# Altium integrated library WE-LHMI (rev25c).IntLib: 193 symbols (part 3 of 4)
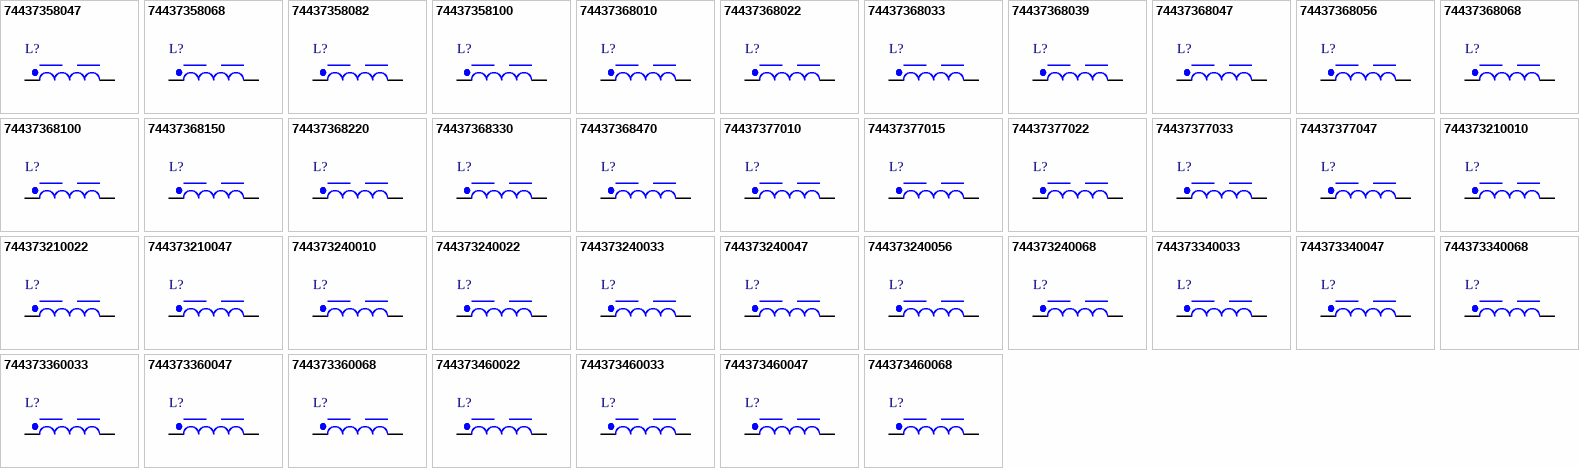
[diagram p6: symbols 74437358047 to 744373460068]

## 744373240056
designator L?, comment 0.56μH  (value not drawn)
WE-LHMI SMT Power Inductor, size 4020, 0.56μH, 7.9A, 16mΩ; Manufacturer Part Number: 744373240056; Manufacturer: Wurth Elektronik; Case/Size Code: 4020; Saturation Current @ 10%: 6.7A; Saturation Current @ 30%: 13A; Self Resonant Frequency: 104MHz; Category: Power Inductors; Match Code: WE-LHMI; ComponentLink1Description: Website Link; ComponentLink1URL: https://www.we-online.com/redexpert/article/744373240056?ad; ComponentLink2Description: Datasheet Link; ComponentLink2URL: https://www.we-online.com/redexpert/spec/744373240056?ad; Mount: Surface Mount; Min Operating Temperature: -40°C; Max Operating Temperature: 125°C; Packaging: Tape and Reel; Length: 4.45mm; Width: 4.06mm; Height: 1.8mm; DC Resistance Max: 16mΩ; Inductance: 0.56μH; Performance Rated Current: 7.9A
footprint WE-LHMI_4020
simulation model 4020_744373240056_0.56u
pins: 1, 2

## 744373240068
designator L?, comment 0.68μH  (value not drawn)
WE-LHMI SMT Power Inductor, size 4020, 0.68μH, 7.3A, 19mΩ; Manufacturer Part Number: 744373240068; Manufacturer: Wurth Elektronik; Case/Size Code: 4020; Saturation Current @ 10%: 7.1A; Saturation Current @ 30%: 14A; Self Resonant Frequency: 90MHz; Category: Power Inductors; Match Code: WE-LHMI; ComponentLink1Description: Website Link; ComponentLink1URL: https://www.we-online.com/redexpert/article/744373240068?ad; ComponentLink2Description: Datasheet Link; ComponentLink2URL: https://www.we-online.com/redexpert/spec/744373240068?ad; Mount: Surface Mount; Min Operating Temperature: -40°C; Max Operating Temperature: 125°C; Packaging: Tape and Reel; Length: 4.45mm; Width: 4.06mm; Height: 1.8mm; DC Resistance Max: 19mΩ; Inductance: 0.68μH; Performance Rated Current: 7.3A
footprint WE-LHMI_4020
simulation model 4020_744373240068_0.68u
pins: 1, 2

## 744373340033
designator L?, comment 0.33μH  (value not drawn)
WE-LHMI SMT Power Inductor, size 5020, 0.33μH, 12.4A, 7.3mΩ; Manufacturer Part Number: 744373340033; Manufacturer: Wurth Elektronik; Case/Size Code: 5020; Saturation Current @ 10%: 14.7A; Saturation Current @ 30%: 29.3A; Self Resonant Frequency: 100MHz; Category: Power Inductors; Match Code: WE-LHMI; ComponentLink1Description: Website Link; ComponentLink1URL: https://www.we-online.com/redexpert/article/744373340033?ad; ComponentLink2Description: Datasheet Link; ComponentLink2URL: https://www.we-online.com/redexpert/spec/744373340033?ad; Mount: Surface Mount; Min Operating Temperature: -40°C; Max Operating Temperature: 125°C; Packaging: Tape and Reel; Length: 5.7mm; Width: 5.2mm; Height: 1.8mm; DC Resistance Max: 7.3mΩ; Inductance: 0.33μH; Performance Rated Current: 12.4A
footprint WE-LHMI_5020
simulation model 5020_744373340033_0.33u
pins: 1, 2

## 744373340047
designator L?, comment 0.47μH  (value not drawn)
WE-LHMI SMT Power Inductor, size 5020, 0.47μH, 11.5A, 8.6mΩ; Manufacturer Part Number: 744373340047; Manufacturer: Wurth Elektronik; Case/Size Code: 5020; Saturation Current @ 10%: 9.6A; Saturation Current @ 30%: 19.8A; Self Resonant Frequency: 95MHz; Category: Power Inductors; Match Code: WE-LHMI; ComponentLink1Description: Website Link; ComponentLink1URL: https://www.we-online.com/redexpert/article/744373340047?ad; ComponentLink2Description: Datasheet Link; ComponentLink2URL: https://www.we-online.com/redexpert/spec/744373340047?ad; Mount: Surface Mount; Min Operating Temperature: -40°C; Max Operating Temperature: 125°C; Packaging: Tape and Reel; Length: 5.7mm; Width: 5.2mm; Height: 1.8mm; DC Resistance Max: 8.6mΩ; Inductance: 0.47μH; Performance Rated Current: 11.5A
footprint WE-LHMI_5020
simulation model 5020_744373340047_0.47u
pins: 1, 2

## 744373340068
designator L?, comment 0.68μH  (value not drawn)
WE-LHMI SMT Power Inductor, size 5020, 0.68μH, 9.4A, 12.4mΩ; Manufacturer Part Number: 744373340068; Manufacturer: Wurth Elektronik; Case/Size Code: 5020; Saturation Current @ 10%: 9.8A; Saturation Current @ 30%: 17.8A; Self Resonant Frequency: 90MHz; Category: Power Inductors; Match Code: WE-LHMI; ComponentLink1Description: Website Link; ComponentLink1URL: https://www.we-online.com/redexpert/article/744373340068?ad; ComponentLink2Description: Datasheet Link; ComponentLink2URL: https://www.we-online.com/redexpert/spec/744373340068?ad; Mount: Surface Mount; Min Operating Temperature: -40°C; Max Operating Temperature: 125°C; Packaging: Tape and Reel; Length: 5.7mm; Width: 5.2mm; Height: 1.8mm; DC Resistance Max: 12.4mΩ; Inductance: 0.68μH; Performance Rated Current: 9.4A
footprint WE-LHMI_5020
simulation model 5020_744373340068_0.68u
pins: 1, 2

## 744373360033
designator L?, comment 0.33μH  (value not drawn)
WE-LHMI SMT Power Inductor, size 5030, 0.33μH, 15.1A, 5mΩ; Manufacturer Part Number: 744373360033; Manufacturer: Wurth Elektronik; Case/Size Code: 5030; Saturation Current @ 10%: 15A; Saturation Current @ 30%: 29.3A; Self Resonant Frequency: 120MHz; Category: Power Inductors; Match Code: WE-LHMI; ComponentLink1Description: Website Link; ComponentLink1URL: https://www.we-online.com/redexpert/article/744373360033?ad; ComponentLink2Description: Datasheet Link; ComponentLink2URL: https://www.we-online.com/redexpert/spec/744373360033?ad; Mount: Surface Mount; Min Operating Temperature: -40°C; Max Operating Temperature: 125°C; Packaging: Tape and Reel; Length: 5.7mm; Width: 5.2mm; Height: 2.8mm; DC Resistance Max: 5mΩ; Inductance: 0.33μH; Performance Rated Current: 15.1A
footprint WE-LHMI_5030
simulation model 5030_744373360033_0.33u
pins: 1, 2

## 744373360047
designator L?, comment 0.47μH  (value not drawn)
WE-LHMI SMT Power Inductor, size 5030, 0.47μH, 12.3A, 7.4mΩ; Manufacturer Part Number: 744373360047; Manufacturer: Wurth Elektronik; Case/Size Code: 5030; Saturation Current @ 10%: 10.8A; Saturation Current @ 30%: 21.5A; Self Resonant Frequency: 100MHz; Category: Power Inductors; Match Code: WE-LHMI; ComponentLink1Description: Website Link; ComponentLink1URL: https://www.we-online.com/redexpert/article/744373360047?ad; ComponentLink2Description: Datasheet Link; ComponentLink2URL: https://www.we-online.com/redexpert/spec/744373360047?ad; Mount: Surface Mount; Min Operating Temperature: -40°C; Max Operating Temperature: 125°C; Packaging: Tape and Reel; Length: 5.7mm; Width: 5.2mm; Height: 2.8mm; DC Resistance Max: 7.4mΩ; Inductance: 0.47μH; Performance Rated Current: 12.3A
footprint WE-LHMI_5030
simulation model 5030_744373360047_0.47u
pins: 1, 2

## 744373360068
designator L?, comment 0.68μH  (value not drawn)
WE-LHMI SMT Power Inductor, size 5030, 0.68μH, 9.8A, 12mΩ; Manufacturer Part Number: 744373360068; Manufacturer: Wurth Elektronik; Case/Size Code: 5030; Saturation Current @ 10%: 10.2A; Saturation Current @ 30%: 19.3A; Self Resonant Frequency: 90MHz; Category: Power Inductors; Match Code: WE-LHMI; ComponentLink1Description: Website Link; ComponentLink1URL: https://www.we-online.com/redexpert/article/744373360068?ad; ComponentLink2Description: Datasheet Link; ComponentLink2URL: https://www.we-online.com/redexpert/spec/744373360068?ad; Mount: Surface Mount; Min Operating Temperature: -40°C; Max Operating Temperature: 125°C; Packaging: Tape and Reel; Length: 5.7mm; Width: 5.2mm; Height: 2.8mm; DC Resistance Max: 12mΩ; Inductance: 0.68μH; Performance Rated Current: 9.8A
footprint WE-LHMI_5030
simulation model 5030_744373360068_0.68u
pins: 1, 2

## 744373460022
designator L?, comment 0.22μH  (value not drawn)
WE-LHMI SMT Power Inductor, size 7030, 0.22μH, 23A, 2.8mΩ; Manufacturer Part Number: 744373460022; Manufacturer: Wurth Elektronik; Case/Size Code: 7030; Saturation Current @ 10%: 29.9A; Saturation Current @ 30%: 54.3A; Self Resonant Frequency: 149MHz; Category: Power Inductors; Match Code: WE-LHMI; ComponentLink1Description: Website Link; ComponentLink1URL: https://www.we-online.com/redexpert/article/744373460022?ad; ComponentLink2Description: Datasheet Link; ComponentLink2URL: https://www.we-online.com/redexpert/spec/744373460022?ad; Mount: Surface Mount; Min Operating Temperature: -40°C; Max Operating Temperature: 125°C; Packaging: Tape and Reel; Length: 7.3mm; Width: 6.6mm; Height: 2.8mm; DC Resistance Max: 2.8mΩ; Inductance: 0.22μH; Performance Rated Current: 23A
footprint WE-LHMI_7030
simulation model 7030_744373460022_0.22u
pins: 1, 2

## 744373460033
designator L?, comment 0.33μH  (value not drawn)
WE-LHMI SMT Power Inductor, size 7030, 0.33μH, 17.8A, 3.9mΩ; Manufacturer Part Number: 744373460033; Manufacturer: Wurth Elektronik; Case/Size Code: 7030; Saturation Current @ 10%: 27.1A; Saturation Current @ 30%: 47A; Self Resonant Frequency: 124MHz; Category: Power Inductors; Match Code: WE-LHMI; ComponentLink1Description: Website Link; ComponentLink1URL: https://www.we-online.com/redexpert/article/744373460033?ad; ComponentLink2Description: Datasheet Link; ComponentLink2URL: https://www.we-online.com/redexpert/spec/744373460033?ad; Mount: Surface Mount; Min Operating Temperature: -40°C; Max Operating Temperature: 125°C; Packaging: Tape and Reel; Length: 7.3mm; Width: 6.6mm; Height: 2.8mm; DC Resistance Max: 3.9mΩ; Inductance: 0.33μH; Performance Rated Current: 17.8A
footprint WE-LHMI_7030
simulation model 7030_744373460033_0.33u
pins: 1, 2

## 744373460047
designator L?, comment 0.47μH  (value not drawn)
WE-LHMI SMT Power Inductor, size 7030, 0.47μH, 16.6A, 4.2mΩ; Manufacturer Part Number: 744373460047; Manufacturer: Wurth Elektronik; Case/Size Code: 7030; Saturation Current @ 10%: 21.4A; Saturation Current @ 30%: 37.8A; Self Resonant Frequency: 91MHz; Category: Power Inductors; Match Code: WE-LHMI; ComponentLink1Description: Website Link; ComponentLink1URL: https://www.we-online.com/redexpert/article/744373460047?ad; ComponentLink2Description: Datasheet Link; ComponentLink2URL: https://www.we-online.com/redexpert/spec/744373460047?ad; Mount: Surface Mount; Min Operating Temperature: -40°C; Max Operating Temperature: 125°C; Packaging: Tape and Reel; Length: 7.3mm; Width: 6.6mm; Height: 2.8mm; DC Resistance Max: 4.2mΩ; Inductance: 0.47μH; Performance Rated Current: 16.6A
footprint WE-LHMI_7030
simulation model 7030_744373460047_0.47u
pins: 1, 2

## 744373460068
designator L?, comment 0.68μH  (value not drawn)
WE-LHMI SMT Power Inductor, size 7030, 0.68μH, 15.1A, 5.5mΩ; Manufacturer Part Number: 744373460068; Manufacturer: Wurth Elektronik; Case/Size Code: 7030; Saturation Current @ 10%: 15.9A; Saturation Current @ 30%: 31.6A; Self Resonant Frequency: 72MHz; Category: Power Inductors; Match Code: WE-LHMI; ComponentLink1Description: Website Link; ComponentLink1URL: https://www.we-online.com/redexpert/article/744373460068?ad; ComponentLink2Description: Datasheet Link; ComponentLink2URL: https://www.we-online.com/redexpert/spec/744373460068?ad; Mount: Surface Mount; Min Operating Temperature: -40°C; Max Operating Temperature: 125°C; Packaging: Tape and Reel; Length: 7.3mm; Width: 6.6mm; Height: 2.8mm; DC Resistance Max: 5.5mΩ; Inductance: 0.68μH; Performance Rated Current: 15.1A
footprint WE-LHMI_7030
simulation model 7030_744373460068_0.68u
pins: 1, 2

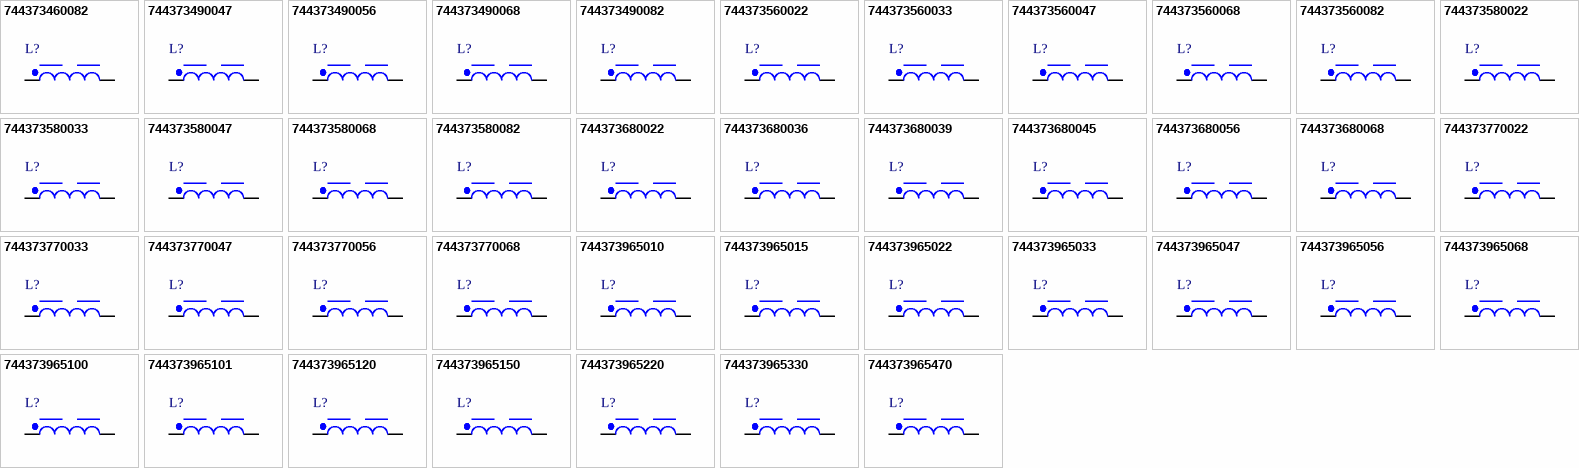
[diagram p3: symbols 744373460082 to 744373965470]

## 744373460082
designator L?, comment 0.82μH  (value not drawn)
WE-LHMI SMT Power Inductor, size 7030, 0.82μH, 12.7A, 8mΩ; Manufacturer Part Number: 744373460082; Manufacturer: Wurth Elektronik; Case/Size Code: 7030; Saturation Current @ 10%: 15A; Saturation Current @ 30%: 31.9A; Self Resonant Frequency: 60MHz; Category: Power Inductors; Match Code: WE-LHMI; ComponentLink1Description: Website Link; ComponentLink1URL: https://www.we-online.com/redexpert/article/744373460082?ad; ComponentLink2Description: Datasheet Link; ComponentLink2URL: https://www.we-online.com/redexpert/spec/744373460082?ad; Mount: Surface Mount; Min Operating Temperature: -40°C; Max Operating Temperature: 125°C; Packaging: Tape and Reel; Length: 7.3mm; Width: 6.6mm; Height: 2.8mm; DC Resistance Max: 8mΩ; Inductance: 0.82μH; Performance Rated Current: 12.7A
footprint WE-LHMI_7030
simulation model 7030_744373460082_0.82u
pins: 1, 2

## 744373490047
designator L?, comment 0.47μH  (value not drawn)
WE-LHMI SMT Power Inductor, size 7050, 0.47μH, 17.8A, 3.9mΩ; Manufacturer Part Number: 744373490047; Manufacturer: Wurth Elektronik; Case/Size Code: 7050; Saturation Current @ 10%: 20A; Saturation Current @ 30%: 41.6A; Self Resonant Frequency: 96MHz; Category: Power Inductors; Match Code: WE-LHMI; ComponentLink1Description: Website Link; ComponentLink1URL: https://www.we-online.com/redexpert/article/744373490047?ad; ComponentLink2Description: Datasheet Link; ComponentLink2URL: https://www.we-online.com/redexpert/spec/744373490047?ad; Mount: Surface Mount; Min Operating Temperature: -40°C; Max Operating Temperature: 125°C; Packaging: Tape and Reel; Length: 7.3mm; Width: 6.6mm; Height: 4.8mm; DC Resistance Max: 3.9mΩ; Inductance: 0.47μH; Performance Rated Current: 17.8A
footprint WE-LHMI_7050
simulation model 7050_744373490047_0.47u
pins: 1, 2

## 744373490056
designator L?, comment 0.56μH  (value not drawn)
WE-LHMI SMT Power Inductor, size 7050, 0.56μH, 17.6A, 4.2mΩ; Manufacturer Part Number: 744373490056; Manufacturer: Wurth Elektronik; Case/Size Code: 7050; Saturation Current @ 10%: 19.9A; Saturation Current @ 30%: 36.4A; Self Resonant Frequency: 85MHz; Category: Power Inductors; Match Code: WE-LHMI; ComponentLink1Description: Website Link; ComponentLink1URL: https://www.we-online.com/redexpert/article/744373490056?ad; ComponentLink2Description: Datasheet Link; ComponentLink2URL: https://www.we-online.com/redexpert/spec/744373490056?ad; Mount: Surface Mount; Min Operating Temperature: -40°C; Max Operating Temperature: 125°C; Packaging: Tape and Reel; Length: 7.3mm; Width: 6.6mm; Height: 4.8mm; DC Resistance Max: 4.2mΩ; Inductance: 0.56μH; Performance Rated Current: 17.6A
footprint WE-LHMI_7050
simulation model 7050_744373490056_0.56u
pins: 1, 2

## 744373490068
designator L?, comment 0.68μH  (value not drawn)
WE-LHMI SMT Power Inductor, size 7050, 0.68μH, 16.7A, 4.5mΩ; Manufacturer Part Number: 744373490068; Manufacturer: Wurth Elektronik; Case/Size Code: 7050; Saturation Current @ 10%: 18.8A; Saturation Current @ 30%: 33.8A; Self Resonant Frequency: 73MHz; Category: Power Inductors; Match Code: WE-LHMI; ComponentLink1Description: Website Link; ComponentLink1URL: https://www.we-online.com/redexpert/article/744373490068?ad; ComponentLink2Description: Datasheet Link; ComponentLink2URL: https://www.we-online.com/redexpert/spec/744373490068?ad; Mount: Surface Mount; Min Operating Temperature: -40°C; Max Operating Temperature: 125°C; Packaging: Tape and Reel; Length: 7.3mm; Width: 6.6mm; Height: 4.8mm; DC Resistance Max: 4.5mΩ; Inductance: 0.68μH; Performance Rated Current: 16.7A
footprint WE-LHMI_7050
simulation model 7050_744373490068_0.68u
pins: 1, 2

## 744373490082
designator L?, comment 0.82μH  (value not drawn)
WE-LHMI SMT Power Inductor, size 7050, 0.82μH, 15.5A, 4.9mΩ; Manufacturer Part Number: 744373490082; Manufacturer: Wurth Elektronik; Case/Size Code: 7050; Saturation Current @ 10%: 17.4A; Saturation Current @ 30%: 31.6A; Self Resonant Frequency: 70MHz; Category: Power Inductors; Match Code: WE-LHMI; ComponentLink1Description: Website Link; ComponentLink1URL: https://www.we-online.com/redexpert/article/744373490082?ad; ComponentLink2Description: Datasheet Link; ComponentLink2URL: https://www.we-online.com/redexpert/spec/744373490082?ad; Mount: Surface Mount; Min Operating Temperature: -40°C; Max Operating Temperature: 125°C; Packaging: Tape and Reel; Length: 7.3mm; Width: 6.6mm; Height: 4.8mm; DC Resistance Max: 4.9mΩ; Inductance: 0.82μH; Performance Rated Current: 15.5A
footprint WE-LHMI_7050
simulation model 7050_744373490082_0.82u
pins: 1, 2

## 744373560022
designator L?, comment 0.22μH  (value not drawn)
WE-LHMI SMT Power Inductor, size 8030, 0.22μH, 29.5A, 1.61mΩ; Manufacturer Part Number: 744373560022; Manufacturer: Wurth Elektronik; Case/Size Code: 8030; Saturation Current @ 10%: 32.1A; Saturation Current @ 30%: 63.4A; Self Resonant Frequency: 110MHz; Category: Power Inductors; Match Code: WE-LHMI; ComponentLink1Description: Website Link; ComponentLink1URL: https://www.we-online.com/redexpert/article/744373560022?ad; ComponentLink2Description: Datasheet Link; ComponentLink2URL: https://www.we-online.com/redexpert/spec/744373560022?ad; Mount: Surface Mount; Min Operating Temperature: -40°C; Max Operating Temperature: 125°C; Packaging: Tape and Reel; Length: 9.7mm; Width: 8.5mm; Height: 3mm; DC Resistance Max: 1.61mΩ; Inductance: 0.22μH; Performance Rated Current: 29.5A
footprint WE-LHMI_8030
simulation model 8030_744373560022_0.22u
pins: 1, 2

## 744373560033
designator L?, comment 0.33μH  (value not drawn)
WE-LHMI SMT Power Inductor, size 8030, 0.33μH, 24.8A, 2.57mΩ; Manufacturer Part Number: 744373560033; Manufacturer: Wurth Elektronik; Case/Size Code: 8030; Saturation Current @ 10%: 26.2A; Saturation Current @ 30%: 51.9A; Self Resonant Frequency: 95MHz; Category: Power Inductors; Match Code: WE-LHMI; ComponentLink1Description: Website Link; ComponentLink1URL: https://www.we-online.com/redexpert/article/744373560033?ad; ComponentLink2Description: Datasheet Link; ComponentLink2URL: https://www.we-online.com/redexpert/spec/744373560033?ad; Mount: Surface Mount; Min Operating Temperature: -40°C; Max Operating Temperature: 125°C; Packaging: Tape and Reel; Length: 9.7mm; Width: 8.5mm; Height: 3mm; DC Resistance Max: 2.57mΩ; Inductance: 0.33μH; Performance Rated Current: 24.8A
footprint WE-LHMI_8030
simulation model 8030_744373560033_0.33u
pins: 1, 2

## 744373560047
designator L?, comment 0.47μH  (value not drawn)
WE-LHMI SMT Power Inductor, size 8030, 0.47μH, 23.2A, 3.33mΩ; Manufacturer Part Number: 744373560047; Manufacturer: Wurth Elektronik; Case/Size Code: 8030; Saturation Current @ 10%: 22A; Saturation Current @ 30%: 44.7A; Self Resonant Frequency: 72MHz; Category: Power Inductors; Match Code: WE-LHMI; ComponentLink1Description: Website Link; ComponentLink1URL: https://www.we-online.com/redexpert/article/744373560047?ad; ComponentLink2Description: Datasheet Link; ComponentLink2URL: https://www.we-online.com/redexpert/spec/744373560047?ad; Mount: Surface Mount; Min Operating Temperature: -40°C; Max Operating Temperature: 125°C; Packaging: Tape and Reel; Length: 9.7mm; Width: 8.5mm; Height: 3mm; DC Resistance Max: 3.33mΩ; Inductance: 0.47μH; Performance Rated Current: 23.2A
footprint WE-LHMI_8030
simulation model 8030_744373560047_0.47u
pins: 1, 2

## 744373560068
designator L?, comment 0.68μH  (value not drawn)
WE-LHMI SMT Power Inductor, size 8030, 0.68μH, 18.5A, 3.99mΩ; Manufacturer Part Number: 744373560068; Manufacturer: Wurth Elektronik; Case/Size Code: 8030; Saturation Current @ 10%: 21A; Saturation Current @ 30%: 43A; Self Resonant Frequency: 53MHz; Category: Power Inductors; Match Code: WE-LHMI; ComponentLink1Description: Website Link; ComponentLink1URL: https://www.we-online.com/redexpert/article/744373560068?ad; ComponentLink2Description: Datasheet Link; ComponentLink2URL: https://www.we-online.com/redexpert/spec/744373560068?ad; Mount: Surface Mount; Min Operating Temperature: -40°C; Max Operating Temperature: 125°C; Packaging: Tape and Reel; Length: 9.7mm; Width: 8.5mm; Height: 3mm; DC Resistance Max: 3.99mΩ; Inductance: 0.68μH; Performance Rated Current: 18.5A
footprint WE-LHMI_8030
simulation model 8030_744373560068_0.68u
pins: 1, 2

## 744373560082
designator L?, comment 0.82μH  (value not drawn)
WE-LHMI SMT Power Inductor, size 8030, 0.82μH, 17.3A, 4.87mΩ; Manufacturer Part Number: 744373560082; Manufacturer: Wurth Elektronik; Case/Size Code: 8030; Saturation Current @ 10%: 19.3A; Saturation Current @ 30%: 40.9A; Self Resonant Frequency: 51MHz; Category: Power Inductors; Match Code: WE-LHMI; ComponentLink1Description: Website Link; ComponentLink1URL: https://www.we-online.com/redexpert/article/744373560082?ad; ComponentLink2Description: Datasheet Link; ComponentLink2URL: https://www.we-online.com/redexpert/spec/744373560082?ad; Mount: Surface Mount; Min Operating Temperature: -40°C; Max Operating Temperature: 125°C; Packaging: Tape and Reel; Length: 9.7mm; Width: 8.5mm; Height: 3mm; DC Resistance Max: 4.87mΩ; Inductance: 0.82μH; Performance Rated Current: 17.3A
footprint WE-LHMI_8030
simulation model 8030_744373560082_0.82u
pins: 1, 2

## 744373580022
designator L?, comment 0.22μH  (value not drawn)
WE-LHMI SMT Power Inductor, size 8040, 0.22μH, 38.5A, 1.35mΩ; Manufacturer Part Number: 744373580022; Manufacturer: Wurth Elektronik; Case/Size Code: 8040; Saturation Current @ 10%: 38.3A; Saturation Current @ 30%: 80.4A; Self Resonant Frequency: 145MHz; Category: Power Inductors; Match Code: WE-LHMI; ComponentLink1Description: Website Link; ComponentLink1URL: https://www.we-online.com/redexpert/article/744373580022?ad; ComponentLink2Description: Datasheet Link; ComponentLink2URL: https://www.we-online.com/redexpert/spec/744373580022?ad; Mount: Surface Mount; Min Operating Temperature: -40°C; Max Operating Temperature: 125°C; Packaging: Tape and Reel; Length: 9.7mm; Width: 8.5mm; Height: 4mm; DC Resistance Max: 1.35mΩ; Inductance: 0.22μH; Performance Rated Current: 38.5A
footprint WE-LHMI_8040
simulation model 8040_744373580022_0.22u
pins: 1, 2

## 744373580033
designator L?, comment 0.33μH  (value not drawn)
WE-LHMI SMT Power Inductor, size 8040, 0.33μH, 29.7A, 2.15mΩ; Manufacturer Part Number: 744373580033; Manufacturer: Wurth Elektronik; Case/Size Code: 8040; Saturation Current @ 10%: 31.4A; Saturation Current @ 30%: 67.2A; Self Resonant Frequency: 96MHz; Category: Power Inductors; Match Code: WE-LHMI; ComponentLink1Description: Website Link; ComponentLink1URL: https://www.we-online.com/redexpert/article/744373580033?ad; ComponentLink2Description: Datasheet Link; ComponentLink2URL: https://www.we-online.com/redexpert/spec/744373580033?ad; Mount: Surface Mount; Min Operating Temperature: -40°C; Max Operating Temperature: 125°C; Packaging: Tape and Reel; Length: 9.7mm; Width: 8.5mm; Height: 4mm; DC Resistance Max: 2.15mΩ; Inductance: 0.33μH; Performance Rated Current: 29.7A
footprint WE-LHMI_8040
simulation model 8040_744373580033_0.33u
pins: 1, 2

## 744373580047
designator L?, comment 0.47μH  (value not drawn)
WE-LHMI SMT Power Inductor, size 8040, 0.47μH, 27.6A, 2.38mΩ; Manufacturer Part Number: 744373580047; Manufacturer: Wurth Elektronik; Case/Size Code: 8040; Saturation Current @ 10%: 27.1A; Saturation Current @ 30%: 56.8A; Self Resonant Frequency: 82MHz; Category: Power Inductors; Match Code: WE-LHMI; ComponentLink1Description: Website Link; ComponentLink1URL: https://www.we-online.com/redexpert/article/744373580047?ad; ComponentLink2Description: Datasheet Link; ComponentLink2URL: https://www.we-online.com/redexpert/spec/744373580047?ad; Mount: Surface Mount; Min Operating Temperature: -40°C; Max Operating Temperature: 125°C; Packaging: Tape and Reel; Length: 9.7mm; Width: 8.5mm; Height: 4mm; DC Resistance Max: 2.38mΩ; Inductance: 0.47μH; Performance Rated Current: 27.6A
footprint WE-LHMI_8040
simulation model 8040_744373580047_0.47u
pins: 1, 2

## 744373580068
designator L?, comment 0.68μH  (value not drawn)
WE-LHMI SMT Power Inductor, size 8040, 0.68μH, 21.5A, 3.22mΩ; Manufacturer Part Number: 744373580068; Manufacturer: Wurth Elektronik; Case/Size Code: 8040; Saturation Current @ 10%: 17.5A; Saturation Current @ 30%: 37.8A; Self Resonant Frequency: 45MHz; Category: Power Inductors; Match Code: WE-LHMI; ComponentLink1Description: Website Link; ComponentLink1URL: https://www.we-online.com/redexpert/article/744373580068?ad; ComponentLink2Description: Datasheet Link; ComponentLink2URL: https://www.we-online.com/redexpert/spec/744373580068?ad; Mount: Surface Mount; Min Operating Temperature: -40°C; Max Operating Temperature: 125°C; Packaging: Tape and Reel; Length: 9.7mm; Width: 8.5mm; Height: 4mm; DC Resistance Max: 3.22mΩ; Inductance: 0.68μH; Performance Rated Current: 21.5A
footprint WE-LHMI_8040
simulation model 8040_744373580068_0.68u
pins: 1, 2

## 744373580082
designator L?, comment 0.82μH  (value not drawn)
WE-LHMI SMT Power Inductor, size 8040, 0.82μH, 20.7A, 3.88mΩ; Manufacturer Part Number: 744373580082; Manufacturer: Wurth Elektronik; Case/Size Code: 8040; Saturation Current @ 10%: 19.7A; Saturation Current @ 30%: 41.6A; Self Resonant Frequency: 51MHz; Category: Power Inductors; Match Code: WE-LHMI; ComponentLink1Description: Website Link; ComponentLink1URL: https://www.we-online.com/redexpert/article/744373580082?ad; ComponentLink2Description: Datasheet Link; ComponentLink2URL: https://www.we-online.com/redexpert/spec/744373580082?ad; Mount: Surface Mount; Min Operating Temperature: -40°C; Max Operating Temperature: 125°C; Packaging: Tape and Reel; Length: 9.7mm; Width: 8.5mm; Height: 4mm; DC Resistance Max: 3.88mΩ; Inductance: 0.82μH; Performance Rated Current: 20.7A
footprint WE-LHMI_8040
simulation model 8040_744373580082_0.82u
pins: 1, 2

## 744373680022
designator L?, comment 0.22μH  (value not drawn)
WE-LHMI SMT Power Inductor, size 1040, 0.22μH, 41.4A, 1mΩ; Manufacturer Part Number: 744373680022; Manufacturer: Wurth Elektronik; Case/Size Code: 1040; Saturation Current @ 10%: 46A; Saturation Current @ 30%: 94.2A; Self Resonant Frequency: 153MHz; Category: Power Inductors; Match Code: WE-LHMI; ComponentLink1Description: Website Link; ComponentLink1URL: https://www.we-online.com/redexpert/article/744373680022?ad; ComponentLink2Description: Datasheet Link; ComponentLink2URL: https://www.we-online.com/redexpert/spec/744373680022?ad; Mount: Surface Mount; Min Operating Temperature: -40°C; Max Operating Temperature: 125°C; Packaging: Tape and Reel; Length: 11mm; Width: 10mm; Height: 3.8mm; DC Resistance Max: 1mΩ; Inductance: 0.22μH; Performance Rated Current: 41.4A
footprint WE-LHMI_1040
simulation model 1040_744373680022_0.22u
pins: 1, 2

## 744373680036
designator L?, comment 0.36μH  (value not drawn)
WE-LHMI SMT Power Inductor, size 1040, 0.36μH, 36.2A, 1.2mΩ; Manufacturer Part Number: 744373680036; Manufacturer: Wurth Elektronik; Case/Size Code: 1040; Saturation Current @ 10%: 44.5A; Saturation Current @ 30%: 79.4A; Self Resonant Frequency: 104MHz; Category: Power Inductors; Match Code: WE-LHMI; ComponentLink1Description: Website Link; ComponentLink1URL: https://www.we-online.com/redexpert/article/744373680036?ad; ComponentLink2Description: Datasheet Link; ComponentLink2URL: https://www.we-online.com/redexpert/spec/744373680036?ad; Mount: Surface Mount; Min Operating Temperature: -40°C; Max Operating Temperature: 125°C; Packaging: Tape and Reel; Length: 11mm; Width: 10mm; Height: 3.8mm; DC Resistance Max: 1.2mΩ; Inductance: 0.36μH; Performance Rated Current: 36.2A
footprint WE-LHMI_1040
simulation model 1040_744373680036_0.36u
pins: 1, 2

## 744373680039
designator L?, comment 0.39μH  (value not drawn)
WE-LHMI SMT Power Inductor, size 1040, 0.39μH, 35.3A, 1.3mΩ; Manufacturer Part Number: 744373680039; Manufacturer: Wurth Elektronik; Case/Size Code: 1040; Saturation Current @ 10%: 43A; Saturation Current @ 30%: 77.5A; Self Resonant Frequency: 101MHz; Category: Power Inductors; Match Code: WE-LHMI; ComponentLink1Description: Website Link; ComponentLink1URL: https://www.we-online.com/redexpert/article/744373680039?ad; ComponentLink2Description: Datasheet Link; ComponentLink2URL: https://www.we-online.com/redexpert/spec/744373680039?ad; Mount: Surface Mount; Min Operating Temperature: -40°C; Max Operating Temperature: 125°C; Packaging: Tape and Reel; Length: 11mm; Width: 10mm; Height: 3.8mm; DC Resistance Max: 1.3mΩ; Inductance: 0.39μH; Performance Rated Current: 35.3A
footprint WE-LHMI_1040
simulation model 1040_744373680039_0.39u
pins: 1, 2

## 744373680045
designator L?, comment 0.45μH  (value not drawn)
WE-LHMI SMT Power Inductor, size 1040, 0.45μH, 32.6A, 1.5mΩ; Manufacturer Part Number: 744373680045; Manufacturer: Wurth Elektronik; Case/Size Code: 1040; Saturation Current @ 10%: 34.9A; Saturation Current @ 30%: 64.5A; Self Resonant Frequency: 82MHz; Category: Power Inductors; Match Code: WE-LHMI; ComponentLink1Description: Website Link; ComponentLink1URL: https://www.we-online.com/redexpert/article/744373680045?ad; ComponentLink2Description: Datasheet Link; ComponentLink2URL: https://www.we-online.com/redexpert/spec/744373680045?ad; Mount: Surface Mount; Min Operating Temperature: -40°C; Max Operating Temperature: 125°C; Packaging: Tape and Reel; Length: 11mm; Width: 10mm; Height: 3.8mm; DC Resistance Max: 1.5mΩ; Inductance: 0.45μH; Performance Rated Current: 32.6A
footprint WE-LHMI_1040
simulation model 1040_744373680045_0.45u
pins: 1, 2

## 744373680056
designator L?, comment 0.56μH  (value not drawn)
WE-LHMI SMT Power Inductor, size 1040, 0.56μH, 29.3A, 1.8mΩ; Manufacturer Part Number: 744373680056; Manufacturer: Wurth Elektronik; Case/Size Code: 1040; Saturation Current @ 10%: 31.7A; Saturation Current @ 30%: 60.9A; Self Resonant Frequency: 70MHz; Category: Power Inductors; Match Code: WE-LHMI; ComponentLink1Description: Website Link; ComponentLink1URL: https://www.we-online.com/redexpert/article/744373680056?ad; ComponentLink2Description: Datasheet Link; ComponentLink2URL: https://www.we-online.com/redexpert/spec/744373680056?ad; Mount: Surface Mount; Min Operating Temperature: -40°C; Max Operating Temperature: 125°C; Packaging: Tape and Reel; Length: 11mm; Width: 10mm; Height: 3.8mm; DC Resistance Max: 1.8mΩ; Inductance: 0.56μH; Performance Rated Current: 29.3A
footprint WE-LHMI_1040
simulation model 1040_744373680056_0.56u
pins: 1, 2

## 744373680068
designator L?, comment 0.68μH  (value not drawn)
WE-LHMI SMT Power Inductor, size 1040, 0.68μH, 23.8A, 2.7mΩ; Manufacturer Part Number: 744373680068; Manufacturer: Wurth Elektronik; Case/Size Code: 1040; Saturation Current @ 10%: 30.6A; Saturation Current @ 30%: 58.3A; Self Resonant Frequency: 53MHz; Category: Power Inductors; Match Code: WE-LHMI; ComponentLink1Description: Website Link; ComponentLink1URL: https://www.we-online.com/redexpert/article/744373680068?ad; ComponentLink2Description: Datasheet Link; ComponentLink2URL: https://www.we-online.com/redexpert/spec/744373680068?ad; Mount: Surface Mount; Min Operating Temperature: -40°C; Max Operating Temperature: 125°C; Packaging: Tape and Reel; Length: 11mm; Width: 10mm; Height: 3.8mm; DC Resistance Max: 2.7mΩ; Inductance: 0.68μH; Performance Rated Current: 23.8A
footprint WE-LHMI_1040
simulation model 1040_744373680068_0.68u
pins: 1, 2

## 744373770022
designator L?, comment 0.22μH  (value not drawn)
WE-LHMI SMT Power Inductor, size 1335, 0.22μH, 45A, 0.9mΩ; Manufacturer Part Number: 744373770022; Manufacturer: Wurth Elektronik; Case/Size Code: 1335; Saturation Current @ 10%: 23.9A; Saturation Current @ 30%: 57.4A; Self Resonant Frequency: 130MHz; Category: Power Inductors; Match Code: WE-LHMI; ComponentLink1Description: Website Link; ComponentLink1URL: https://www.we-online.com/redexpert/article/744373770022?ad; ComponentLink2Description: Datasheet Link; ComponentLink2URL: https://www.we-online.com/redexpert/spec/744373770022?ad; Mount: Surface Mount; Min Operating Temperature: -40°C; Max Operating Temperature: 125°C; Packaging: Tape and Reel; Length: 13.5mm; Width: 12.6mm; Height: 3.3mm; DC Resistance Max: 0.9mΩ; Inductance: 0.22μH; Performance Rated Current: 45A
footprint WE-LHMI_1335
simulation model 1335_744373770022_0.22u
pins: 1, 2

## 744373770033
designator L?, comment 0.33μH  (value not drawn)
WE-LHMI SMT Power Inductor, size 1335, 0.33μH, 41.6A, 1.05mΩ; Manufacturer Part Number: 744373770033; Manufacturer: Wurth Elektronik; Case/Size Code: 1335; Saturation Current @ 10%: 23.9A; Saturation Current @ 30%: 65.5A; Self Resonant Frequency: 84MHz; Category: Power Inductors; Match Code: WE-LHMI; ComponentLink1Description: Website Link; ComponentLink1URL: https://www.we-online.com/redexpert/article/744373770033?ad; ComponentLink2Description: Datasheet Link; ComponentLink2URL: https://www.we-online.com/redexpert/spec/744373770033?ad; Mount: Surface Mount; Min Operating Temperature: -40°C; Max Operating Temperature: 125°C; Packaging: Tape and Reel; Length: 13.5mm; Width: 12.6mm; Height: 3.3mm; DC Resistance Max: 1.05mΩ; Inductance: 0.33μH; Performance Rated Current: 41.6A
footprint WE-LHMI_1335
simulation model 1335_744373770033_0.33u
pins: 1, 2

## 744373770047
designator L?, comment 0.47μH  (value not drawn)
WE-LHMI SMT Power Inductor, size 1335, 0.47μH, 33.8A, 1.6mΩ; Manufacturer Part Number: 744373770047; Manufacturer: Wurth Elektronik; Case/Size Code: 1335; Saturation Current @ 10%: 17.2A; Saturation Current @ 30%: 40.2A; Self Resonant Frequency: 77MHz; Category: Power Inductors; Match Code: WE-LHMI; ComponentLink1Description: Website Link; ComponentLink1URL: https://www.we-online.com/redexpert/article/744373770047?ad; ComponentLink2Description: Datasheet Link; ComponentLink2URL: https://www.we-online.com/redexpert/spec/744373770047?ad; Mount: Surface Mount; Min Operating Temperature: -40°C; Max Operating Temperature: 125°C; Packaging: Tape and Reel; Length: 13.5mm; Width: 12.6mm; Height: 3.3mm; DC Resistance Max: 1.6mΩ; Inductance: 0.47μH; Performance Rated Current: 33.8A
footprint WE-LHMI_1335
simulation model 1335_744373770047_0.47u
pins: 1, 2

## 744373770056
designator L?, comment 0.56μH  (value not drawn)
WE-LHMI SMT Power Inductor, size 1335, 0.56μH, 32.9A, 1.7mΩ; Manufacturer Part Number: 744373770056; Manufacturer: Wurth Elektronik; Case/Size Code: 1335; Saturation Current @ 10%: 16.8A; Saturation Current @ 30%: 42.8A; Self Resonant Frequency: 59MHz; Category: Power Inductors; Match Code: WE-LHMI; ComponentLink1Description: Website Link; ComponentLink1URL: https://www.we-online.com/redexpert/article/744373770056?ad; ComponentLink2Description: Datasheet Link; ComponentLink2URL: https://www.we-online.com/redexpert/spec/744373770056?ad; Mount: Surface Mount; Min Operating Temperature: -40°C; Max Operating Temperature: 125°C; Packaging: Tape and Reel; Length: 13.5mm; Width: 12.6mm; Height: 3.3mm; DC Resistance Max: 1.7mΩ; Inductance: 0.56μH; Performance Rated Current: 32.9A
footprint WE-LHMI_1335
simulation model 1335_744373770056_0.56u
pins: 1, 2

## 744373770068
designator L?, comment 0.68μH  (value not drawn)
WE-LHMI SMT Power Inductor, size 1335, 0.68μH, 28.8A, 2.2mΩ; Manufacturer Part Number: 744373770068; Manufacturer: Wurth Elektronik; Case/Size Code: 1335; Saturation Current @ 10%: 15.7A; Saturation Current @ 30%: 42.5A; Self Resonant Frequency: 51MHz; Category: Power Inductors; Match Code: WE-LHMI; ComponentLink1Description: Website Link; ComponentLink1URL: https://www.we-online.com/redexpert/article/744373770068?ad; ComponentLink2Description: Datasheet Link; ComponentLink2URL: https://www.we-online.com/redexpert/spec/744373770068?ad; Mount: Surface Mount; Min Operating Temperature: -40°C; Max Operating Temperature: 125°C; Packaging: Tape and Reel; Length: 13.5mm; Width: 12.6mm; Height: 3.3mm; DC Resistance Max: 2.2mΩ; Inductance: 0.68μH; Performance Rated Current: 28.8A
footprint WE-LHMI_1335
simulation model 1335_744373770068_0.68u
pins: 1, 2

## 744373965010
designator L?, comment 1μH  (value not drawn)
WE-LHMI SMT Power Inductor, size 1365, 1μH, 28.2A, 2.3mΩ; Manufacturer Part Number: 744373965010; Manufacturer: Wurth Elektronik; Case/Size Code: 1365; Saturation Current @ 10%: 32.7A; Saturation Current @ 30%: 59.9A; Self Resonant Frequency: 43.5MHz; Category: Power Inductors; Match Code: WE-LHMI; ComponentLink1Description: Website Link; ComponentLink1URL: https://www.we-online.com/redexpert/article/744373965010?ad; ComponentLink2Description: Datasheet Link; ComponentLink2URL: https://www.we-online.com/redexpert/spec/744373965010?ad; Mount: Surface Mount; Min Operating Temperature: -40°C; Max Operating Temperature: 125°C; Packaging: Tape and Reel; Length: 13.65mm; Width: 12.5mm; Height: 6.2mm; DC Resistance Max: 2.3mΩ; Inductance: 1μH; Performance Rated Current: 28.2A
footprint WE-LHMI_1365
simulation model 1365_744373965010_1u
pins: 1, 2

## 744373965015
designator L?, comment 1.5μH  (value not drawn)
WE-LHMI SMT Power Inductor, size 1365, 1.5μH, 25.7A, 3mΩ; Manufacturer Part Number: 744373965015; Manufacturer: Wurth Elektronik; Case/Size Code: 1365; Saturation Current @ 10%: 28.9A; Saturation Current @ 30%: 55.2A; Self Resonant Frequency: 29.5MHz; Category: Power Inductors; Match Code: WE-LHMI; ComponentLink1Description: Website Link; ComponentLink1URL: https://www.we-online.com/redexpert/article/744373965015?ad; ComponentLink2Description: Datasheet Link; ComponentLink2URL: https://www.we-online.com/redexpert/spec/744373965015?ad; Mount: Surface Mount; Min Operating Temperature: -40°C; Max Operating Temperature: 125°C; Packaging: Tape and Reel; Length: 13.65mm; Width: 12.5mm; Height: 6.2mm; DC Resistance Max: 3mΩ; Inductance: 1.5μH; Performance Rated Current: 25.7A
footprint WE-LHMI_1365
simulation model 1365_744373965015_1.5u
pins: 1, 2

## 744373965022
designator L?, comment 2.2μH  (value not drawn)
WE-LHMI SMT Power Inductor, size 1365, 2.2μH, 21.6A, 4.2mΩ; Manufacturer Part Number: 744373965022; Manufacturer: Wurth Elektronik; Case/Size Code: 1365; Saturation Current @ 10%: 20.7A; Saturation Current @ 30%: 41.1A; Self Resonant Frequency: 21.6MHz; Category: Power Inductors; Match Code: WE-LHMI; ComponentLink1Description: Website Link; ComponentLink1URL: https://www.we-online.com/redexpert/article/744373965022?ad; ComponentLink2Description: Datasheet Link; ComponentLink2URL: https://www.we-online.com/redexpert/spec/744373965022?ad; Mount: Surface Mount; Min Operating Temperature: -40°C; Max Operating Temperature: 125°C; Packaging: Tape and Reel; Length: 13.65mm; Width: 12.5mm; Height: 6.2mm; DC Resistance Max: 4.2mΩ; Inductance: 2.2μH; Performance Rated Current: 21.6A
footprint WE-LHMI_1365
simulation model 1365_744373965022_2.2u
pins: 1, 2

## 744373965033
designator L?, comment 3.3μH  (value not drawn)
WE-LHMI SMT Power Inductor, size 1365, 3.3μH, 16.2A, 6.8mΩ; Manufacturer Part Number: 744373965033; Manufacturer: Wurth Elektronik; Case/Size Code: 1365; Saturation Current @ 10%: 20.3A; Saturation Current @ 30%: 41.5A; Self Resonant Frequency: 20.3MHz; Category: Power Inductors; Match Code: WE-LHMI; ComponentLink1Description: Website Link; ComponentLink1URL: https://www.we-online.com/redexpert/article/744373965033?ad; ComponentLink2Description: Datasheet Link; ComponentLink2URL: https://www.we-online.com/redexpert/spec/744373965033?ad; Mount: Surface Mount; Min Operating Temperature: -40°C; Max Operating Temperature: 125°C; Packaging: Tape and Reel; Length: 13.65mm; Width: 12.5mm; Height: 6.2mm; DC Resistance Max: 6.8mΩ; Inductance: 3.3μH; Performance Rated Current: 16.2A
footprint WE-LHMI_1365
simulation model 1365_744373965033_3.3u
pins: 1, 2

## 744373965047
designator L?, comment 4.7μH  (value not drawn)
WE-LHMI SMT Power Inductor, size 1365, 4.7μH, 15.1A, 8.4mΩ; Manufacturer Part Number: 744373965047; Manufacturer: Wurth Elektronik; Case/Size Code: 1365; Saturation Current @ 10%: 18.4A; Saturation Current @ 30%: 35.8A; Self Resonant Frequency: 13.9MHz; Category: Power Inductors; Match Code: WE-LHMI; ComponentLink1Description: Website Link; ComponentLink1URL: https://www.we-online.com/redexpert/article/744373965047?ad; ComponentLink2Description: Datasheet Link; ComponentLink2URL: https://www.we-online.com/redexpert/spec/744373965047?ad; Mount: Surface Mount; Min Operating Temperature: -40°C; Max Operating Temperature: 125°C; Packaging: Tape and Reel; Length: 13.65mm; Width: 12.5mm; Height: 6.2mm; DC Resistance Max: 8.4mΩ; Inductance: 4.7μH; Performance Rated Current: 15.1A
footprint WE-LHMI_1365
simulation model 1365_744373965047_4.7u
pins: 1, 2

## 744373965056
designator L?, comment 5.6μH  (value not drawn)
WE-LHMI SMT Power Inductor, size 1365, 5.6μH, 13.3A, 10mΩ; Manufacturer Part Number: 744373965056; Manufacturer: Wurth Elektronik; Case/Size Code: 1365; Saturation Current @ 10%: 18.3A; Saturation Current @ 30%: 33A; Self Resonant Frequency: 13.7MHz; Category: Power Inductors; Match Code: WE-LHMI; ComponentLink1Description: Website Link; ComponentLink1URL: https://www.we-online.com/redexpert/article/744373965056?ad; ComponentLink2Description: Datasheet Link; ComponentLink2URL: https://www.we-online.com/redexpert/spec/744373965056?ad; Mount: Surface Mount; Min Operating Temperature: -40°C; Max Operating Temperature: 125°C; Packaging: Tape and Reel; Length: 13.65mm; Width: 12.5mm; Height: 6.2mm; DC Resistance Max: 10mΩ; Inductance: 5.6μH; Performance Rated Current: 13.3A
footprint WE-LHMI_1365
simulation model 1365_744373965056_5.6u
pins: 1, 2

## 744373965068
designator L?, comment 6.8μH  (value not drawn)
WE-LHMI SMT Power Inductor, size 1365, 6.8μH, 12.7A, 11.6mΩ; Manufacturer Part Number: 744373965068; Manufacturer: Wurth Elektronik; Case/Size Code: 1365; Saturation Current @ 10%: 15.8A; Saturation Current @ 30%: 28.9A; Self Resonant Frequency: 11.6MHz; Category: Power Inductors; Match Code: WE-LHMI; ComponentLink1Description: Website Link; ComponentLink1URL: https://www.we-online.com/redexpert/article/744373965068?ad; ComponentLink2Description: Datasheet Link; ComponentLink2URL: https://www.we-online.com/redexpert/spec/744373965068?ad; Mount: Surface Mount; Min Operating Temperature: -40°C; Max Operating Temperature: 125°C; Packaging: Tape and Reel; Length: 13.65mm; Width: 12.5mm; Height: 6.2mm; DC Resistance Max: 11.6mΩ; Inductance: 6.8μH; Performance Rated Current: 12.7A
footprint WE-LHMI_1365
simulation model 1365_744373965068_6.8u
pins: 1, 2

## 744373965100
designator L?, comment 10μH  (value not drawn)
WE-LHMI SMT Power Inductor, size 1365, 10μH, 11.8A, 16.5mΩ; Manufacturer Part Number: 744373965100; Manufacturer: Wurth Elektronik; Case/Size Code: 1365; Saturation Current @ 10%: 13.2A; Saturation Current @ 30%: 23.9A; Self Resonant Frequency: 8MHz; Category: Power Inductors; Match Code: WE-LHMI; ComponentLink1Description: Website Link; ComponentLink1URL: https://www.we-online.com/redexpert/article/744373965100?ad; ComponentLink2Description: Datasheet Link; ComponentLink2URL: https://www.we-online.com/redexpert/spec/744373965100?ad; Mount: Surface Mount; Min Operating Temperature: -40°C; Max Operating Temperature: 125°C; Packaging: Tape and Reel; Length: 13.65mm; Width: 12.5mm; Height: 6.2mm; DC Resistance Max: 16.5mΩ; Inductance: 10μH; Performance Rated Current: 11.8A
footprint WE-LHMI_1365
simulation model 1365_744373965100_10u
pins: 1, 2

## 744373965101
designator L?, comment 100μH  (value not drawn)
WE-LHMI SMT Power Inductor, size 1365, 100μH, 3.2A, 165mΩ; Manufacturer Part Number: 744373965101; Manufacturer: Wurth Elektronik; Case/Size Code: 1365; Saturation Current @ 10%: 3.45A; Saturation Current @ 30%: 6.8A; Self Resonant Frequency: 2.4MHz; Category: Power Inductors; Match Code: WE-LHMI; ComponentLink1Description: Website Link; ComponentLink1URL: https://www.we-online.com/redexpert/article/744373965101?ad; ComponentLink2Description: Datasheet Link; ComponentLink2URL: https://www.we-online.com/redexpert/spec/744373965101?ad; Mount: Surface Mount; Min Operating Temperature: -40°C; Max Operating Temperature: 125°C; Packaging: Tape and Reel; Length: 13.65mm; Width: 12.5mm; Height: 6.2mm; DC Resistance Max: 165mΩ; Inductance: 100μH; Performance Rated Current: 3.2A
footprint WE-LHMI_1365
simulation model 1365_744373965101_100u
pins: 1, 2

## 744373965120
designator L?, comment 12μH  (value not drawn)
WE-LHMI SMT Power Inductor, size 1365, 12μH, 9.1A, 20mΩ; Manufacturer Part Number: 744373965120; Manufacturer: Wurth Elektronik; Case/Size Code: 1365; Saturation Current @ 10%: 12.9A; Saturation Current @ 30%: 26.6A; Self Resonant Frequency: 7.6MHz; Category: Power Inductors; Match Code: WE-LHMI; ComponentLink1Description: Website Link; ComponentLink1URL: https://www.we-online.com/redexpert/article/744373965120?ad; ComponentLink2Description: Datasheet Link; ComponentLink2URL: https://www.we-online.com/redexpert/spec/744373965120?ad; Mount: Surface Mount; Min Operating Temperature: -40°C; Max Operating Temperature: 125°C; Packaging: Tape and Reel; Length: 13.65mm; Width: 12.5mm; Height: 6.2mm; DC Resistance Max: 20mΩ; Inductance: 12μH; Performance Rated Current: 9.1A
footprint WE-LHMI_1365
simulation model 1365_744373965120_12u
pins: 1, 2

## 744373965150
designator L?, comment 15μH  (value not drawn)
WE-LHMI SMT Power Inductor, size 1365, 15μH, 7.7A, 28mΩ; Manufacturer Part Number: 744373965150; Manufacturer: Wurth Elektronik; Case/Size Code: 1365; Saturation Current @ 10%: 10.2A; Saturation Current @ 30%: 18.5A; Self Resonant Frequency: 7.5MHz; Category: Power Inductors; Match Code: WE-LHMI; ComponentLink1Description: Website Link; ComponentLink1URL: https://www.we-online.com/redexpert/article/744373965150?ad; ComponentLink2Description: Datasheet Link; ComponentLink2URL: https://www.we-online.com/redexpert/spec/744373965150?ad; Mount: Surface Mount; Min Operating Temperature: -40°C; Max Operating Temperature: 125°C; Packaging: Tape and Reel; Length: 13.65mm; Width: 12.5mm; Height: 6.2mm; DC Resistance Max: 28mΩ; Inductance: 15μH; Performance Rated Current: 7.7A
footprint WE-LHMI_1365
simulation model 1365_744373965150_15u
pins: 1, 2

## 744373965220
designator L?, comment 22μH  (value not drawn)
WE-LHMI SMT Power Inductor, size 1365, 22μH, 6.5A, 37mΩ; Manufacturer Part Number: 744373965220; Manufacturer: Wurth Elektronik; Case/Size Code: 1365; Saturation Current @ 10%: 6.7A; Saturation Current @ 30%: 13.9A; Self Resonant Frequency: 5.4MHz; Category: Power Inductors; Match Code: WE-LHMI; ComponentLink1Description: Website Link; ComponentLink1URL: https://www.we-online.com/redexpert/article/744373965220?ad; ComponentLink2Description: Datasheet Link; ComponentLink2URL: https://www.we-online.com/redexpert/spec/744373965220?ad; Mount: Surface Mount; Min Operating Temperature: -40°C; Max Operating Temperature: 125°C; Packaging: Tape and Reel; Length: 13.65mm; Width: 12.5mm; Height: 6.2mm; DC Resistance Max: 37mΩ; Inductance: 22μH; Performance Rated Current: 6.5A
footprint WE-LHMI_1365
simulation model 1365_744373965220_22u
pins: 1, 2

## 744373965330
designator L?, comment 33μH  (value not drawn)
WE-LHMI SMT Power Inductor, size 1365, 33μH, 5.45A, 58mΩ; Manufacturer Part Number: 744373965330; Manufacturer: Wurth Elektronik; Case/Size Code: 1365; Saturation Current @ 10%: 6.3A; Saturation Current @ 30%: 13.2A; Self Resonant Frequency: 4.4MHz; Category: Power Inductors; Match Code: WE-LHMI; ComponentLink1Description: Website Link; ComponentLink1URL: https://www.we-online.com/redexpert/article/744373965330?ad; ComponentLink2Description: Datasheet Link; ComponentLink2URL: https://www.we-online.com/redexpert/spec/744373965330?ad; Mount: Surface Mount; Min Operating Temperature: -40°C; Max Operating Temperature: 125°C; Packaging: Tape and Reel; Length: 13.65mm; Width: 12.5mm; Height: 6.2mm; DC Resistance Max: 58mΩ; Inductance: 33μH; Performance Rated Current: 5.45A
footprint WE-LHMI_1365
simulation model 1365_744373965330_33u
pins: 1, 2

## 744373965470
designator L?, comment 47μH  (value not drawn)
WE-LHMI SMT Power Inductor, size 1365, 47μH, 4.4A, 90mΩ; Manufacturer Part Number: 744373965470; Manufacturer: Wurth Elektronik; Case/Size Code: 1365; Saturation Current @ 10%: 6.15A; Saturation Current @ 30%: 13.1A; Self Resonant Frequency: 3.8MHz; Category: Power Inductors; Match Code: WE-LHMI; ComponentLink1Description: Website Link; ComponentLink1URL: https://www.we-online.com/redexpert/article/744373965470?ad; ComponentLink2Description: Datasheet Link; ComponentLink2URL: https://www.we-online.com/redexpert/spec/744373965470?ad; Mount: Surface Mount; Min Operating Temperature: -40°C; Max Operating Temperature: 125°C; Packaging: Tape and Reel; Length: 13.65mm; Width: 12.5mm; Height: 6.2mm; DC Resistance Max: 90mΩ; Inductance: 47μH; Performance Rated Current: 4.4A
footprint WE-LHMI_1365
simulation model 1365_744373965470_47u
pins: 1, 2

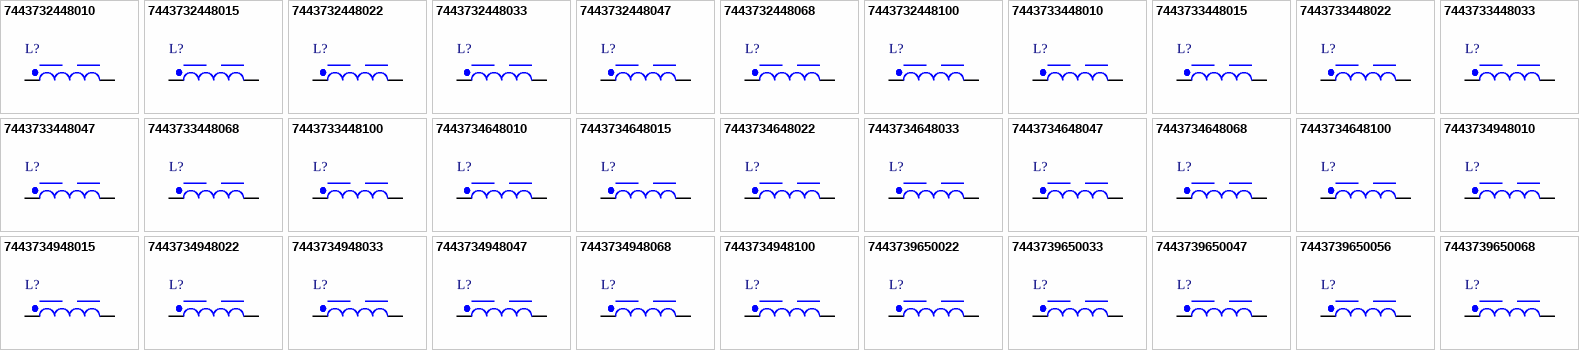
[diagram p4: symbols 7443732448010 to 7443739650068]

## 7443732448010
designator L?, comment 1μH  (value not drawn)
WE-LHMI SMT Power Inductor, size 4020 HT, 1μH, 6.7A, 27mΩ; Manufacturer Part Number: 7443732448010; Manufacturer: Wurth Elektronik; Case/Size Code: 4020 HT; Saturation Current @ 10%: 4A; Saturation Current @ 30%: 8.5A; Self Resonant Frequency: 66MHz; Category: Power Inductors; Match Code: WE-LHMI; ComponentLink1Description: Website Link; ComponentLink1URL: https://www.we-online.com/redexpert/article/7443732448010?ad; ComponentLink2Description: Datasheet Link; ComponentLink2URL: https://www.we-online.com/redexpert/spec/7443732448010?ad; Mount: Surface Mount; Min Operating Temperature: -55°C; Max Operating Temperature: 150°C; Packaging: Tape and Reel; Length: 4.45mm; Width: 4.06mm; Height: 1.8mm; DC Resistance Max: 27mΩ; Inductance: 1μH; Performance Rated Current: 6.7A
footprint WE-LHMI_4020 HT
simulation model 4020HT_7443732448010_1u
pins: 1, 2

## 7443732448015
designator L?, comment 1.5μH  (value not drawn)
WE-LHMI SMT Power Inductor, size 4020 HT, 1.5μH, 6A, 46mΩ; Manufacturer Part Number: 7443732448015; Manufacturer: Wurth Elektronik; Case/Size Code: 4020 HT; Saturation Current @ 10%: 3.4A; Saturation Current @ 30%: 7A; Self Resonant Frequency: 55MHz; Category: Power Inductors; Match Code: WE-LHMI; ComponentLink1Description: Website Link; ComponentLink1URL: https://www.we-online.com/redexpert/article/7443732448015?ad; ComponentLink2Description: Datasheet Link; ComponentLink2URL: https://www.we-online.com/redexpert/spec/7443732448015?ad; Mount: Surface Mount; Min Operating Temperature: -55°C; Max Operating Temperature: 150°C; Packaging: Tape and Reel; Length: 4.45mm; Width: 4.06mm; Height: 1.8mm; DC Resistance Max: 46mΩ; Inductance: 1.5μH; Performance Rated Current: 6A
footprint WE-LHMI_4020 HT
simulation model 4020HT_7443732448015_1.5u
pins: 1, 2